# EAGLE library part IC1 (library CAN_BUS_Interface_v2)
CAN BUS Transceiver
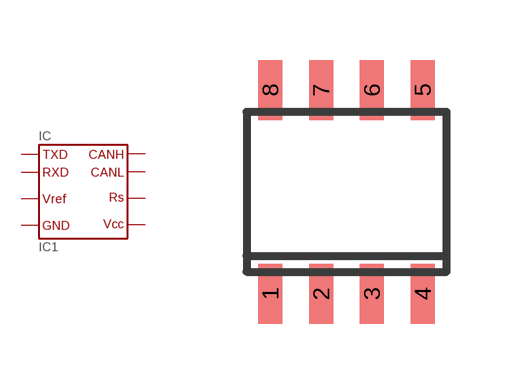
[diagram p0: symbol with the pads of IC1; footprint IC1]

Designator prefix IC

## IC1  [IC1]
1  TXD  in
2  GND  out
3  VCC  pwr
4  RXD  out
5  VREF  out
6  CANL
7  CANH
8  RS  in

## Footprint IC1 (pad centres in mm)
SO8_SOT96-1
smd 0.6 x 1.5: 1 -1.905,-2.55; 2 -0.635,-2.55; 3 0.635,-2.55; 4 1.905,-2.55; 5 1.905,2.55; 6 0.635,2.55; 7 -0.635,2.55; 8 -1.905,2.55